# Altium footprint library SUPERSEAL 34POS 90Deg.PcbLib: 1 footprints
Each footprint in its own frame and in the unit in brackets; x right, y up, seen from the top. Pads: shape width x height; smd on the part's side, far side on the other; paste and mask are expansions set on the pad; w line width, h text height; cw(c..) or ccw(c..) is an arc to the next point about the centre after c.
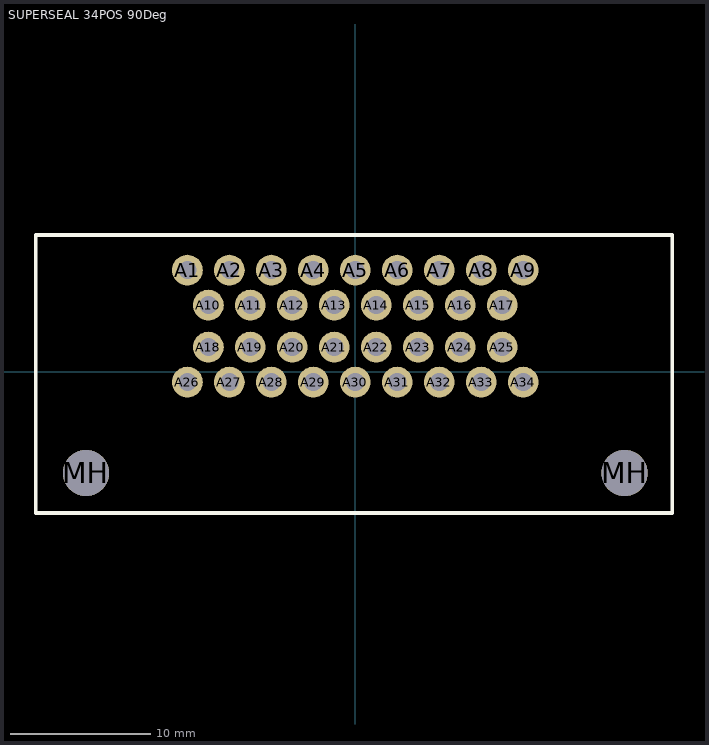
[diagram p0: the footprint, top view; thin cyan lines are the x and y axes]

## SUPERSEAL 34POS 90Deg [mm]
pads (36):
  round 2.2 hole 1.3: A1(-12,7.25) A2(-9,7.25) A3(-6,7.25) A4(-3,7.25) A5(0,7.25) A6(3,7.25) A7(6,7.25) A8(9,7.25) A9(12,7.25) A10(-10.5,4.75) A11(-7.5,4.75) A12(-4.5,4.75) A13(-1.5,4.75) A14(1.5,4.75) A15(4.5,4.75) A16(7.5,4.75) A17(10.5,4.75) A18(-10.5,1.75) A19(-7.5,1.75) A20(-4.5,1.75) A21(-1.5,1.75) A22(1.5,1.75) A23(4.5,1.75) A24(7.5,1.75) A25(10.5,1.75) A26(-12,-0.75) A27(-9,-0.75) A28(-6,-0.75) A29(-3,-0.75) A30(0,-0.75) A31(3,-0.75) A32(6,-0.75) A33(9,-0.75) A34(12,-0.75)
  round 3.3 hole 3.3: MH(-19.25,-7.25) MH(19.25,-7.25)
Top Overlay:
  lines w0.254: -22.835,-10.109 22.65,-10.109 22.65,9.76 -22.835,9.76 -22.835,-10.109
3D body "c-3-6437285-0-c-3d.stp": height 28.16, standoff -3.99, extent -22.75,-26.67 22.75,9.83